# Altium schematic symbol library DRV5053VAQLPG.Schlib: 1 symbol
Pins are listed as number, name and electrical type; pins without a type are passive.

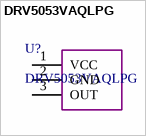
[diagram p0: symbol DRV5053VAQLPG]

## DRV5053VAQLPG
designator U?
pins: 1 VCC, 2 GND, 3 OUT